# Altium schematic symbol library Diode.SchLib: 4 symbols
Pins are listed as number, name and electrical type; pins without a type are passive.

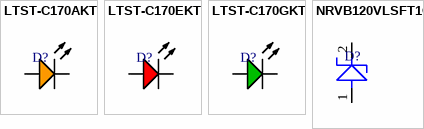
[diagram p0: symbols LTST-C170AKT to NRVB120VLSFT1G]

## LTST-C170AKT
designator D?, comment ORANGE  (value not drawn)
LED ORANGE, SMD 0805, 2.1V/30mA; Manufacturer: Vishay Lite-On; Manufacturer Part Number: LTST-C170AKT; Lens Color: Colorless; Lens Style: Diffused,Colorless,Rectangular,Clear; Luminous Intensity: 2mcd; Forward Current: 30mA; Viewing Angle: 130°; Forward Voltage: 2.1V; Dominant Wavelength: 602nm; Test Current: 10mA; Lens Transparency: Clear; Number of Elements: 1; Power Dissipation: 100mW; Wavelength: 610nm; Reverse Voltage: 5V; RoHS: Yes; Category: LEDs; Stock 1: 1201; Pricing 1: 1=0,2162, 10=0,1414, 25=0,1404, 100=0,0749, 250=0,0738, 500=0,0682, 1000=0,0546 (USD); Mounting Technology: Surface Mount; Case/Package: 0805; Pins: 2; Color: Orange; Case Code (Metric): 2012; Case Code (Imperial): 0805; Min Operating Temperature: -55°C; Max Operating Temperature: 85°C; Packaging: Tape and Reel; Package Quantity: 1; Illumination Color: Orange; Number of LEDs: 1; Series: CHIPLED 0805; Max Power Dissipation: 100mW; Length: 2mm; Width: 1.25mm; Height: 1.1mm; Depth: 1.25mm; Radiation Hardening: No; Lead Free: Lead Free; RoHS Compliant: Yes; ComponentLink1URL: https://datasheet.ciiva.com/11773/0900766b80dc0275-11773962.pdf?src-supplier=Rs; ComponentLink1Description: https://datasheet.ciiva.com/11773/0900766b80dc0275-11773962.pdf?src-supplier=Rs; ComponentLink2URL: https://datasheet.ciiva.com/16388/lite-on20ltst-c170akt-16388570.pdf?src-supplier=Future+Electronics; ComponentLink2Description: https://datasheet.ciiva.com/16388/lite-on20ltst-c170akt-16388570.pdf?src-supplier=Future+Electronics; ComponentLink3URL: https://datasheet.ciiva.com/19466/1996129-19466129.pdf?src-supplier=Jameco; ComponentLink3Description: https://datasheet.ciiva.com/19466/1996129-19466129.pdf?src-supplier=Jameco; ComponentLink4URL: https://datasheet.ciiva.com/12400/lite-on-ltst-c170akt-187687-12400757.pdf?src-supplier=Mouser; ComponentLink4Description: https://datasheet.ciiva.com/12400/lite-on-ltst-c170akt-187687-12400757.pdf?src-supplier=Mouser; ComponentLink5URL: https://datasheet.ciiva.com/2110/ltst-c170akt-2110108.pdf?src-supplier=Digi-Key; ComponentLink5Description: https://datasheet.ciiva.com/2110/ltst-c170akt-2110108.pdf?src-supplier=Digi-Key; ComponentLink6URL: https://datasheet.ciiva.com/15117/getdatasheetpartid-147503-15117857.pdf?src-supplier=Verical; ComponentLink6Description: https://datasheet.ciiva.com/15117/getdatasheetpartid-147503-15117857.pdf?src-supplier=Verical; ComponentLink7URL: https://datasheet.ciiva.com/2110/ltst-c170akt-2110109.pdf?src-supplier=Digi-Key; ComponentLink7Description: https://datasheet.ciiva.com/2110/ltst-c170akt-2110109.pdf?src-supplier=Digi-Key; ComponentLink8URL: https://datasheet.ciiva.com/2110/ltst-c170akt-2110110.pdf?src-supplier=Digi-Key; ComponentLink8Description: https://datasheet.ciiva.com/2110/ltst-c170akt-2110110.pdf?src-supplier=Digi-Key; Supplier 1: Mouser; Supplier Part Number 1: 859-LTST-C170AKT; Supplier 2: Digi-Key; Supplier 3: Digi-Key; Supplier Part Number 2: 160-1177-1-ND; Supplier Part Number 3: 160-1177-6-ND
footprint 0805-LED-ORANGE
pins: 1 A, 2 K

## LTST-C170EKT
designator D?, comment RED  (value not drawn)
LED RED, SMD 0805, 2V/30mA; Manufacturer: Vishay Lite-On; Manufacturer Part Number: LTST-C170EKT; Lens Color: Colorless; Luminous Intensity: 2mcd; Forward Current: 30mA; Viewing Angle: 130°; Forward Voltage: 2V; Lens Style: Flat,Diffused,Colorless,Rectangular,Clear; Dominant Wavelength: 621nm; Test Current: 10mA; Lens Transparency: Clear; Number of Elements: 1; Power Dissipation: 100mW; Wavelength: 630nm; Reverse Voltage: 5V; Lens Size: 1.25mm; RoHS: Yes; Category: LEDs; Stock 1: 36000; Pricing 1: 3000=0,0571, 6000=0,0465, 15000=0,0404, 30000=0,035, 75000=0,0347, 150000=0,0331 (USD); Mounting Technology: Surface Mount; Case/Package: 0805; Pins: 2; Color: Red; Case Code (Metric): 2012; Case Code (Imperial): 0805; Min Operating Temperature: -55°C; Max Operating Temperature: 85°C; Packaging: Tape and Reel; Package Quantity: 3000; Illumination Color: Red; Number of LEDs: 1; Series: -; Power Rating: 100mW; Voltage: 5V; Length: 2mm; Width: 1.25mm; Height: 1.1mm; Depth: 1.25mm; Radiation Hardening: No; Lead Free: Lead Free; RoHS Compliant: Yes; ComponentLink1URL: https://datasheet.ciiva.com/16202/lite-on20ltst-c170ekt-16202383.pdf?src-supplier=Future+Electronics; ComponentLink1Description: https://datasheet.ciiva.com/16202/lite-on20ltst-c170ekt-16202383.pdf?src-supplier=Future+Electronics; ComponentLink2URL: https://datasheet.ciiva.com/2110/ltst-c170ekt-2110099.pdf?src-supplier=Digi-Key; ComponentLink2Description: https://datasheet.ciiva.com/2110/ltst-c170ekt-2110099.pdf?src-supplier=Digi-Key; ComponentLink3URL: https://datasheet.ciiva.com/11775/0900766b80dc0277-11775641.pdf?src-supplier=Rs; ComponentLink3Description: https://datasheet.ciiva.com/11775/0900766b80dc0277-11775641.pdf?src-supplier=Rs; ComponentLink4URL: https://datasheet.ciiva.com/19482/1260314-19482330.pdf?src-supplier=Jameco; ComponentLink4Description: https://datasheet.ciiva.com/19482/1260314-19482330.pdf?src-supplier=Jameco; ComponentLink5URL: https://datasheet.ciiva.com/15117/getdatasheetpartid-147507-15117859.pdf?src-supplier=Verical; ComponentLink5Description: https://datasheet.ciiva.com/15117/getdatasheetpartid-147507-15117859.pdf?src-supplier=Verical; ComponentLink6URL: https://datasheet.ciiva.com/2110/ltst-c170ekt-2110100.pdf?src-supplier=Digi-Key; ComponentLink6Description: https://datasheet.ciiva.com/2110/ltst-c170ekt-2110100.pdf?src-supplier=Digi-Key; ComponentLink7URL: https://datasheet.ciiva.com/2110/ltst-c170ekt-2110101.pdf?src-supplier=Digi-Key; ComponentLink7Description: https://datasheet.ciiva.com/2110/ltst-c170ekt-2110101.pdf?src-supplier=Digi-Key; Supplier 1: Mouser; Supplier Part Number 1: 859-LTST-C170EKT; Supplier 2: Digi-Key; Supplier 3: Digi-Key; Supplier Part Number 3: 160-1178-6-ND; Supplier Part Number 2: 160-1178-1-ND
footprint 0805-LED-RED
pins: 1 A, 2 K

## LTST-C170GKT
designator D?, comment GREEN  (value not drawn)
LED GREEN, SMD 0805, 2.1V/30mA; Manufacturer: Vishay Lite-On; Manufacturer Part Number: LTST-C170GKT; Lens Color: Colorless; Viewing Angle: 130°; Lens Style: Flat,Diffused,Colorless,Rectangular; Luminous Intensity: 6mcd; Forward Current: 30mA; Forward Voltage: 2.1V; Dominant Wavelength: 569nm; Test Current: 10mA; Lens Transparency: Clear; Number of Elements: 1; Power Dissipation: 100mW; Wavelength: 565nm; Reverse Voltage: 5V; Lens Size: 1.25mm; RoHS: Yes; Category: LEDs; Stock 1: 34600; Pricing 1: 250=0,062, 500=0,055, 1250=0,043, 2500=0,041 (GBP); Mounting Technology: Surface Mount; Case/Package: 0805; Pins: 2; Color: Green; Case Code (Metric): 2012; Case Code (Imperial): 0805; Min Operating Temperature: -55°C; Max Operating Temperature: 85°C; Package Quantity: 3000; Packaging: Tape and Reel; Illumination Color: Green; Number of LEDs: 1; Series: -; Power Rating: 100mW; Voltage: 5V; Length: 2mm; Width: 1.25mm; Height: 1.1mm; Depth: 1.25mm; Radiation Hardening: No; Lead Free: Lead Free; RoHS Compliant: Yes; ComponentLink1URL: https://datasheet.ciiva.com/11773/0900766b80dc0278-11773630.pdf?src-supplier=Rs; ComponentLink1Description: https://datasheet.ciiva.com/11773/0900766b80dc0278-11773630.pdf?src-supplier=Rs; ComponentLink2URL: https://datasheet.ciiva.com/25772/ltst-c170gkt-25772881.pdf?src-supplier=Allied+Electronics; ComponentLink2Description: https://datasheet.ciiva.com/25772/ltst-c170gkt-25772881.pdf?src-supplier=Allied+Electronics; ComponentLink3URL: https://datasheet.ciiva.com/2110/ltst-c170gkt-2110128.pdf?src-supplier=Digi-Key; ComponentLink3Description: https://datasheet.ciiva.com/2110/ltst-c170gkt-2110128.pdf?src-supplier=Digi-Key; ComponentLink4URL: https://datasheet.ciiva.com/12400/lite-on-ltst-c170gkt-187191-12400783.pdf?src-supplier=Mouser; ComponentLink4Description: https://datasheet.ciiva.com/12400/lite-on-ltst-c170gkt-187191-12400783.pdf?src-supplier=Mouser; ComponentLink5URL: https://datasheet.ciiva.com/15117/getdatasheetpartid-142079-15117738.pdf?src-supplier=Verical; ComponentLink5Description: https://datasheet.ciiva.com/15117/getdatasheetpartid-142079-15117738.pdf?src-supplier=Verical; ComponentLink6URL: https://datasheet.ciiva.com/16387/ltst-c170gkt-16387357.pdf?src-supplier=Future+Electronics; ComponentLink6Description: https://datasheet.ciiva.com/16387/ltst-c170gkt-16387357.pdf?src-supplier=Future+Electronics; Supplier 1: Mouser; Supplier Part Number 1: 859-LTST-C170GKT; Supplier 2: Digi-Key; Supplier 3: Digi-Key; Supplier Part Number 2: 160-1179-1-ND; Supplier Part Number 3: 160-1179-6-ND
footprint 0805-LED-GREEN
pins: 1 A, 2 K

## NRVB120VLSFT1G
designator D?  (value not drawn)
DIODE SHOTTKY SMD SOD-123F, 0,3V/1A, VBR 20V; Manufacturer: ON Semiconductor; Manufacturer Part Number: NRVB120VLSFT1G; Average Rectified Current: 1A; Max Reverse Current: 15mA; Peak Non-Repetitive Surge Current: 45A; Element Configuration: Single; RoHS: Yes; Category: Schottky Diodes; Stock 1: 170; Pricing 1: 1=0,51000, 5=0,51000, 10=0,43400, 25=0,39700, 50=0,36100, 100=0,32400, 250=0,28900, 500=0,25400, 1000=0,19700 (USD); Mount: Surface Mount; Case/Package: SOD; Number of Pins: 2; Min Operating Temperature: -65°C; Max Operating Temperature: 125°C; Packaging: Tape and Reel; Max Repetitive Reverse Voltage (Vrrm): 20V; Max Reverse Voltage (DC): 20V; Lead Free: Lead Free; RoHS Compliant: Yes; ComponentLink1URL: http://www.farnell.com/datasheets/2028665.pdf?src-supplier=Farnell; ComponentLink1Description: http://www.farnell.com/datasheets/2028665.pdf?src-supplier=Farnell; ComponentLink2URL: http://www.mouser.com/ds/2/308/MBR120VLSFT1-D-1074021.pdf?src-supplier=Mouser; ComponentLink2Description: http://www.mouser.com/ds/2/308/MBR120VLSFT1-D-1074021.pdf?src-supplier=Mouser; ComponentLink3URL: http://www.onsemi.com/pub/Collateral/MBR120VLSFT1-D.PDF?src-supplier=Digi-Key; ComponentLink3Description: http://www.onsemi.com/pub/Collateral/MBR120VLSFT1-D.PDF?src-supplier=Digi-Key; ComponentLink4URL: http://www.onsemi.com/pub/Collateral/MBR120VLSFT1-D.PDF?src-supplier=Avnet; ComponentLink4Description: http://www.onsemi.com/pub/Collateral/MBR120VLSFT1-D.PDF?src-supplier=Avnet; ComponentLink5URL: http://www.farnell.com/datasheets/2028665.pdf?src-supplier=Element14; ComponentLink5Description: http://www.farnell.com/datasheets/2028665.pdf?src-supplier=Element14; ComponentLink6URL: http://www.farnell.com/datasheets/2028665.pdf?src-supplier=Newark; ComponentLink6Description: http://www.farnell.com/datasheets/2028665.pdf?src-supplier=Newark; Supplier 1: Mouser; Supplier Part Number 1: 863-NRVB120VLSFT1G; Supplier 2: Digi-Key; Supplier 3: Digi-Key; Supplier Part Number 2: NRVB120VLSFT1GOSCT-ND; Supplier Part Number 3: NRVB120VLSFT1GOSDKR-ND
footprint SOD-123
pins: 1, 2